# EAGLE library part PINHEAD-2_PINHD-2X06 (library RFM12)
PIN HEADER
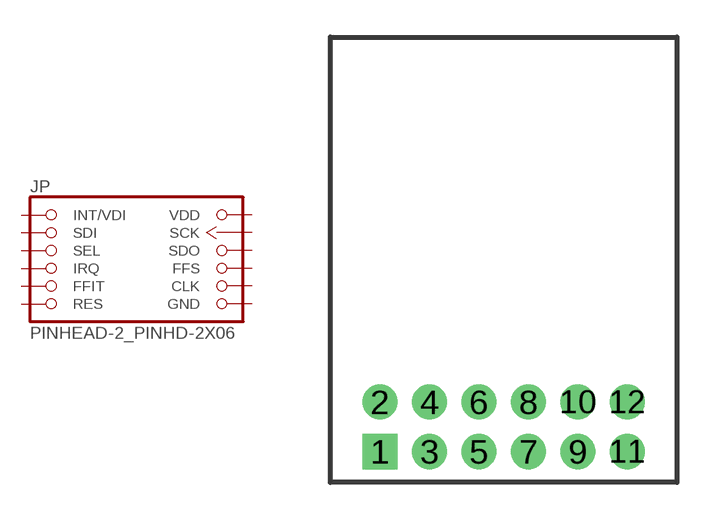
[diagram p0: symbol with the pads of PINHEAD-2_2X06M; footprint PINHEAD-2_2X06M]

Designator prefix JP

## PINHEAD-2_PINHD-2X06_2.00  [PINHEAD-2_2X06M]
1  INT/VDI
2  VDD  pwr
3  SDI  in
4  SCK  in
5  SEL  in
6  SDO  out
7  IRQ  out
8  FFS
9  FFIT
10  CLK  out
11  RES
12  GND  pwr

## Footprint PINHEAD-2_2X06M (pad centres in mm)
PIN HEADER - 2
drill 0.914 square: 1 -5,-1
drill 0.914 round: 2 -5,1; 3 -3,-1; 4 -3,1; 5 -1,-1; 6 -1,1; 7 1,-1; 8 1,1; 9 3,-1; 10 3,1; 11 5,-1; 12 5,1